# Altium footprint library Toygether_PcbLib.PcbLib: 45 footprints (part 3 of 3)
Each footprint in its own frame and in the unit in brackets; x right, y up, seen from the top. Pads: shape width x height; smd on the part's side, far side on the other; paste and mask are expansions set on the pad; w line width, h text height; cw(c..) or ccw(c..) is an arc to the next point about the centre after c.
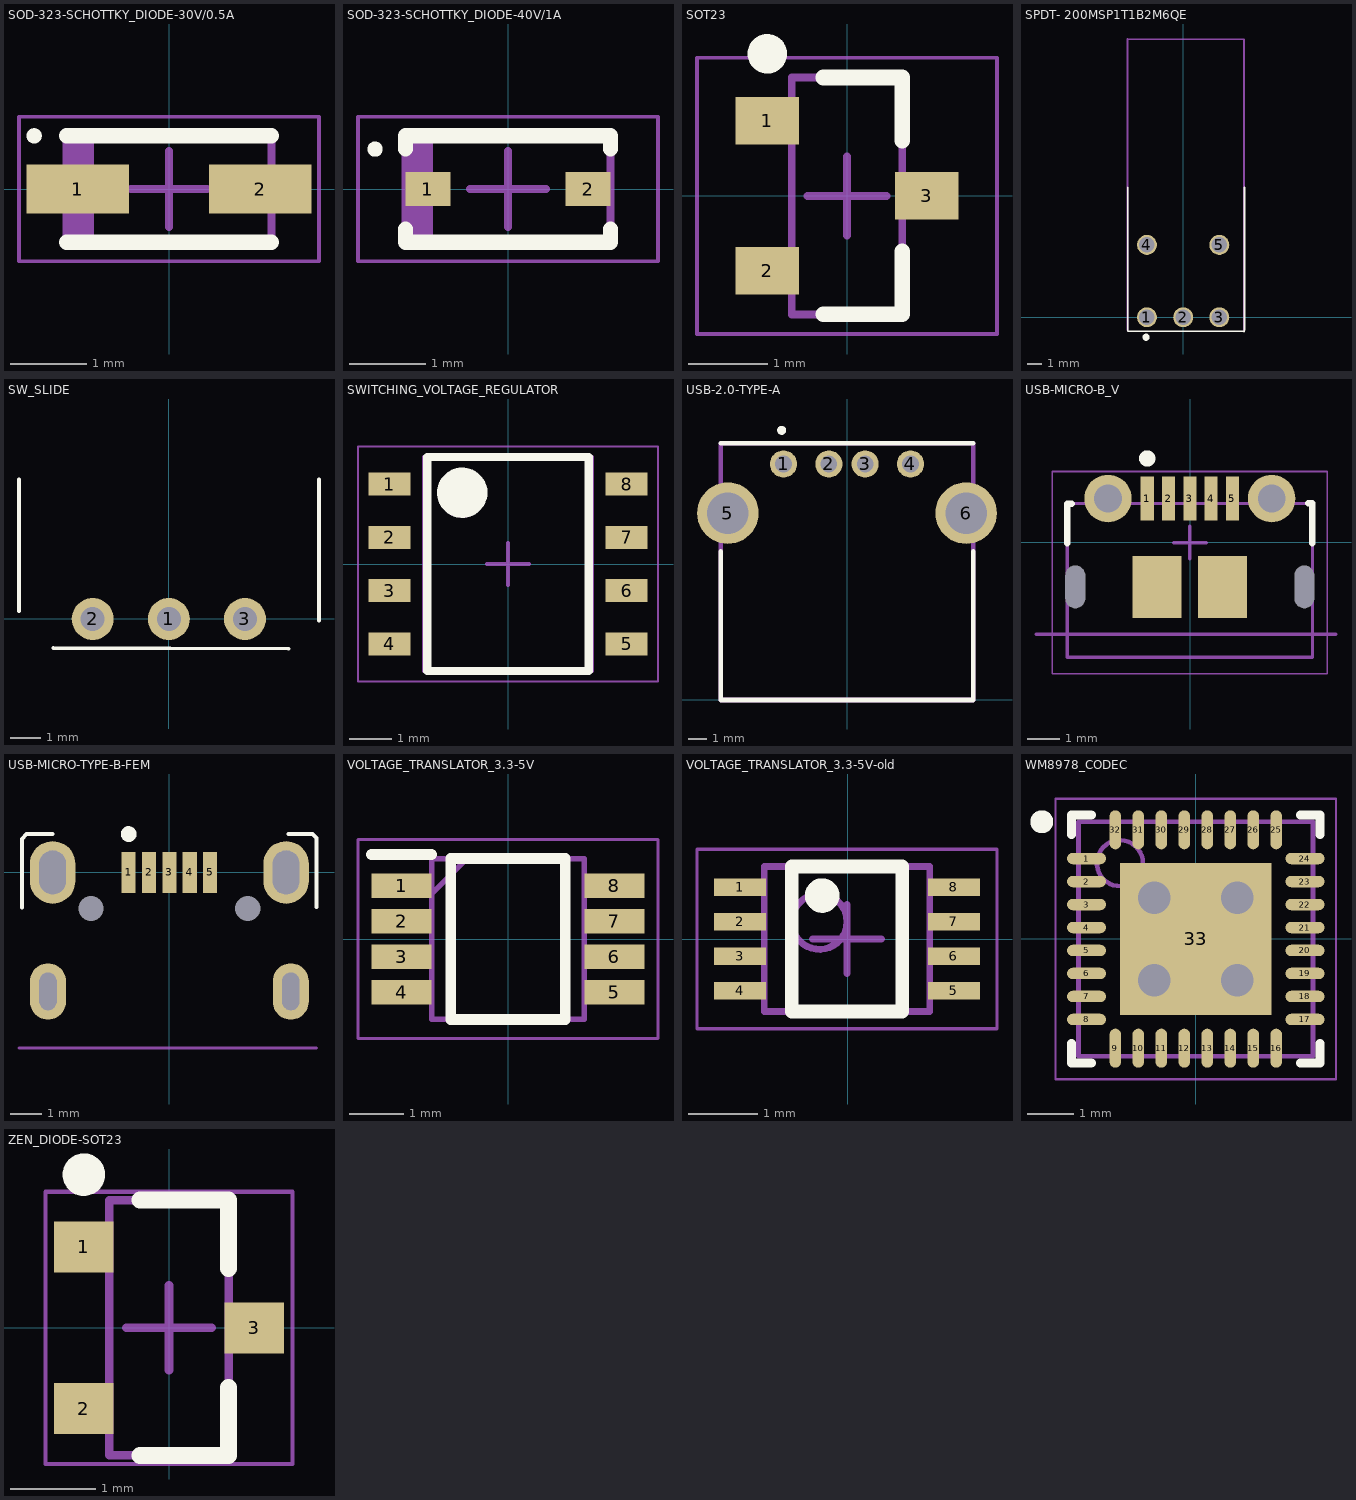
[diagram p2: the footprints below, top view; thin cyan lines are the x and y axes]

## SOD-323-SCHOTTKY_DIODE-30V/0.5A [mm] "Molded Diode, 2-Leads, Body 2,50x1,30mm, IPC Medium Density"
height 1.1
pads (2):
  rect 1.35x0.65 smd: 1(-1.2,0) 2(1.2,0)
Top Overlay:
  circle w0.1: c-1.775,0.7 r0.05
  lines w0.2: -1.35,-0.7 1.35,-0.7 ; -1.35,0.7 1.35,0.7
Mechanical 13:
  rectangle: -1.35,-0.7 -0.987,0.7
  lines w0.1: -1.35,-0.7 1.35,-0.7 1.35,0.7 -1.35,0.7 -1.35,-0.7
Mechanical 15:
  lines w0.05: -1.975,-0.95 1.975,-0.95 1.975,0.95 -1.975,0.95 -1.975,-0.95
  lines w0.1: -0.5,0 0.5,0 ; 0,-0.5 0,0.5
3D body "SOD-323.step": height 1.1, standoff 0, extent -1.57,-0.7 1.57,0.7

## SOD-323-SCHOTTKY_DIODE-40V/1A [mm]
pads (2):
  rect 0.59x0.45 smd: 1(-1.055,0) 2(1.055,0)
Top Overlay:
  circle w0.1: c-1.75,0.525 r0.05
  lines w0.2: -1.35,-0.525 -1.35,-0.7 1.35,-0.7 1.35,-0.525 ; -1.35,0.525 -1.35,0.7 1.35,0.7 1.35,0.525
Mechanical 13:
  rectangle: -1.35,-0.7 -0.987,0.7
  lines w0.1: -1.35,-0.7 1.35,-0.7 1.35,0.7 -1.35,0.7 -1.35,-0.7
Mechanical 15:
  lines w0.05: -1.975,-0.95 1.975,-0.95 1.975,0.95 -1.975,0.95 -1.975,-0.95
  lines w0.1: -0.5,0 0.5,0 ; 0,-0.5 0,0.5
3D body "CAPM3216X18N.step": height 1.1, standoff 0, extent -1.57,-0.7 1.57,0.7

## SOT23 [mm] "SOT23, 3-Leads, Body 2,90x2,40mm, Pitch 0,95mm, IPC Medium Density"
height 1.1
pads (3):
  rect 0.8x0.6 smd: 1(-1.01,0.95) 2(-1.01,-0.95) 3(1.01,0)
Top Overlay:
  circle w0.25: c-1.01,1.8 r0.125
  lines w0.2: -0.3,-1.5 0.7,-1.5 0.7,-0.7 ; -0.3,1.5 0.7,1.5 0.7,0.7
Mechanical 13:
  lines w0.1: -0.7,-1.5 -0.7,1.5 0.7,1.5 0.7,-1.5 -0.7,-1.5
Mechanical 15:
  lines w0.05: -1.9,-1.75 -1.9,1.75 1.9,1.75 1.9,-1.75 -1.9,-1.75
  lines w0.1: -0.5,0 0.5,0 ; 0,-0.5 0,0.5
3D body "SOT23.step": height 1.1, standoff 0, extent -1.275,-1.5 1.275,1.5

## SPDT- 200MSP1T1B2M6QE [mm]
pads (5):
  round 1.4 hole 1.09: 1(-2.54,0) 2(0,0) 3(2.54,0) 4(-2.54,5.08) 5(2.54,5.08)
Top Overlay:
  circle w0.25: c-2.6,-1.4 r0.125
  lines w0.127: -3.89,-0.9 -3.89,9.1 ; -3.86,-0.97 4.27,-0.991 ; 4.3,-0.9 4.3,9.1
Mechanical 4:
  lines w0.127: -3.9,-0.9 -3.9,19.49 ; -3.9,19.53 4.23,19.509 ; 4.28,-0.9 4.28,19.49

## SW_SLIDE [mm]
pads (3):
  round 1.4 hole 0.8: 1(0,0) 2(-2.54,0) 3(2.54,0)
Top Overlay:
  lines w0.127: -5,0.27 -5,4.66 ; -3.86,-0.97 3.99,-0.99 ; 5.01,-0.05 5.01,4.66
3D body "450302014072.stp": height 2.51, standoff -3.69, extent -5,-0.3 5,6.8

## SWITCHING_VOLTAGE_REGULATOR [mm]
height 1.75
pads (8):
  rect 1x0.55 smd: 1(-2.825,1.905) 2(-2.825,0.635) 3(-2.825,-0.635) 4(-2.825,-1.905) 5(2.825,-1.905) 6(2.825,-0.635) 7(2.825,0.635) 8(2.825,1.905)
Top Overlay:
  circle w0.6: c-1.09,1.7 r0.3
  lines w0.2: -1.925,-2.55 -1.925,2.55 1.925,2.55 1.925,-2.55 -1.925,-2.55
Mechanical 13:
  circle w0.1: c-1.1,1.65 r0.5
  lines w0.1: -2,-2.55 -2,2.55 2,2.55 2,-2.55 -2,-2.55
Mechanical 15:
  lines w0.05: -3.575,-2.8 -3.575,2.8 3.575,2.8 3.575,-2.8 -3.575,-2.8
  lines w0.1: -0.5,0 0.5,0 ; 0,-0.5 0,0.5
3D body "SOP127P600-8N.step": height 1.75, standoff 0, extent -3.025,-2.55 3.025,2.55

## USB-2.0-TYPE-A [mm]
height 11.05
pads (6):
  round 1.5 hole 0.92: 1(-3.5,13) 2(-1,13) 3(1,13) 4(3.5,13)
  round 3.4 hole 2.3: 5(-6.57,10.29) 6(6.57,10.29)
Top Overlay:
  circle w0.25: c-3.6,14.857 r0.125
  lines w0.254: -6.95,8.19 -6.95,-0.01 6.95,-0.01 6.95,8.19 ; -6.95,14.14 6.95,14.14
Mechanical 15:
  lines w0.254: -6.95,-0.01 -6.95,14.14 6.95,14.14 6.95,-0.01 -6.95,-0.01

## USB-MICRO-B_V [mm] "USB, MICRO B, Body 7.491x4.695 mm, Pitch 0.65 mm"
height 2.673
pads (11):
  rect 0.4x1.35 smd: 1(-1.31,1.332) 2(-0.66,1.332) 3(-0.01,1.332) 4(0.64,1.332) 5(1.29,1.332)
  rrect50% 0x0 hole 0.6 slot 1.3 at 90 deg: 8(-3.51,-1.368) 11(3.49,-1.368)
  round 1.45 hole 0.85: ""(-2.51,1.332) ""(2.49,1.332)
  rect 1.5x1.9 smd: ""(-1.01,-1.368) ""(0.99,-1.368)
Top Overlay:
  circle w0.25: c-1.31,2.557 r0.125
  lines w0.2: -3.755,-0.03 -3.755,1.177 -3.624,1.177 ; 3.605,1.182 3.735,1.182 3.735,-0.03
Mechanical 1:
  lines w0.1: -4.71,-2.818 4.455,-2.818
  text "PCB EDGE" at -7.21,-2.918 h0.3
Mechanical 13:
  lines w0.1: -3.76,1.182 3.735,1.182 3.735,-3.518 -3.755,-3.518 -3.755,1.177
Mechanical 15:
  lines w0.05: -4.21,-4.018 -4.21,2.157 4.19,2.157 4.19,-4.018 -4.21,-4.018
  lines w0.1: -0.51,-0.018 0.49,-0.018 ; -0.01,-0.518 -0.01,0.482
Multi-Layer:
  circle w0.5: c3.59,-1.818 r0.25
  circle w0.5: c3.59,-0.918 r0.25
  circle w0.5: c-3.61,-0.918 r0.25
  circle w0.5: c-3.61,-1.818 r0.25
  region: 3.59,-0.918 3.59,-1.818 4.09,-1.818 4.09,-0.918
  region: 2.29,-0.418 2.29,-2.318 3.59,-2.318 3.59,-0.418
  region: -3.61,-1.818 -3.61,-0.918 -4.11,-0.918 -4.11,-1.818
  region: -2.31,-2.318 -2.31,-0.418 -3.61,-0.418 -3.61,-2.318
3D body "1050170001.stp": height 2.67, standoff -0.63, extent -4.1,-4.08 4.1,1.32

## USB-MICRO-TYPE-B-FEM [mm]
height 2.66
pads (11):
  rect 0.45x1.3 smd: 1(-1.3,0) 2(-0.65,0) 3(0,0) 4(0.65,0) 5(1.3,0)
  oval 1.15x1.8 hole 1.2 slot 0.55 at 0 deg: ""(-3.875,-3.8) ""(3.875,-3.8)
  oval 1.45x2 hole 1.4 slot 0.85 at 0 deg: ""(-3.725,0) ""(3.725,0)
  round 0 hole 0.8: ""(-2.5,-1.15) ""(2.5,-1.15)
Top Overlay:
  circle w0.25: c-1.3,1.225 r0.125
  lines w0.127: -4.708,-1.127 -4.708,1.073 -4.556,1.225 -4.475,1.225 -3.725,1.225 ; 3.8,1.225 4.4,1.225 4.567,1.225 4.7,1.092 4.7,0.925 4.7,-1.1
Mechanical 1:
  lines w0.1: -4.8,-5.6 4.7,-5.6
  text "PCB EDGE" at -7.3,-5.6 h0.3
3D body "1050170001.stp": height 2.67, standoff -0.63, extent -4.1,-5.55 4.1,-0.15

## VOLTAGE_TRANSLATOR_3.3-5V [mm] "TSSOP, 8-Leads, Body 2,00x2,30mm, Pitch 0,50mm, IPC Medium Density"
height 0.9
pads (8):
  rect 1.1x0.45 smd: 1(-1.95,0.975) 2(-1.95,0.325) 3(-1.95,-0.325) 4(-1.95,-0.975) 5(1.95,-0.975) 6(1.95,-0.325) 7(1.95,0.325) 8(1.95,0.975)
Top Overlay:
  lines w0.2: -2.5,1.55 -1.4,1.55 ; -1.05,-1.475 1.05,-1.475 1.05,1.475 -1.05,1.475 -1.05,-1.475
Mechanical 15:
  lines w0.1: -1.4,0.825 -0.75,1.475 ; -1.4,-1.475 1.4,-1.475 1.4,1.475 -1.4,1.475 -1.4,-1.475
Mechanical 20:
  lines w0.05: -2.75,-1.825 2.75,-1.825 2.75,1.825 -2.75,1.825 -2.75,-1.825
3D body "SN74LVC2T45DCTR.stp": height 1.3, standoff 0, extent -2,-1.475 2,1.475

## VOLTAGE_TRANSLATOR_3.3-5V-old [mm]
pads (8):
  rect 0.75x0.25 smd mask+0.102: 1(-1.56,0.75) 2(-1.56,0.25) 3(-1.56,-0.25) 4(-1.56,-0.75) 5(1.54,-0.75) 6(1.54,-0.25) 7(1.54,0.25) 8(1.54,0.75)
Top Overlay:
  circle w0.25: c-0.37,0.63 r0.125
  lines w0.2: -0.81,-1.05 -0.81,1.05 0.79,1.05 0.79,-1.05 -0.81,-1.05
Mechanical 13:
  circle w0.1: c-0.41,0.25 r0.4
  lines w0.1: -1.21,-1.05 -1.21,1.05 1.19,1.05 1.19,-1.05 -1.21,-1.05
Mechanical 15:
  lines w0.05: -2.185,-1.3 -2.185,1.3 2.165,1.3 2.165,-1.3 -2.185,-1.3
  lines w0.1: -0.51,0 0.49,0 ; -0.01,-0.5 -0.01,0.5
3D body "VOLTAGE_TRANSLATOR_3.3-5V.step": height 0.9, standoff 0, extent -1.559,-1.05 1.539,1.05

## WM8978_CODEC [mm] "QFN, 32-Leads, Body 5.00x5.00mm, Pitch 0.50mm, Thermal Pad 3.30x3.30mm, IPC Medium Density"
height 1
pads (33):
  oval 0.85x0.25 smd: 1(-2.375,1.75) 2(-2.375,1.25) 3(-2.375,0.75) 4(-2.375,0.25) 5(-2.375,-0.25) 6(-2.375,-0.75) 7(-2.375,-1.25) 8(-2.375,-1.75) 17(2.375,-1.75) 18(2.375,-1.25) 19(2.375,-0.75) 20(2.375,-0.25) 21(2.375,0.25) 22(2.375,0.75) 23(2.375,1.25) 24(2.375,1.75)
  oval 0.25x0.85 smd: 9(-1.75,-2.375) 10(-1.25,-2.375) 11(-0.75,-2.375) 12(-0.25,-2.375) 13(0.25,-2.375) 14(0.75,-2.375) 15(1.25,-2.375) 16(1.75,-2.375) 25(1.75,2.375) 26(1.25,2.375) 27(0.75,2.375) 28(0.25,2.375) 29(-0.25,2.375) 30(-0.75,2.375) 31(-1.25,2.375) 32(-1.75,2.375)
  rect 3.3x3.3 smd: 33(0,0)
via 0.9,0.9 diameter 1.27 hole 0.711
via 0.9,-0.9 diameter 1.27 hole 0.711
via -0.9,-0.9 diameter 1.27 hole 0.711
via -0.9,0.9 diameter 1.27 hole 0.711
Top Overlay:
  circle w0.25: c-3.35,2.55 r0.125
  lines w0.2: -2.7,-2.275 -2.7,-2.7 -2.275,-2.7 ; -2.7,2.275 -2.7,2.7 -2.275,2.7 ; 2.275,-2.7 2.7,-2.7 2.7,-2.275 ; 2.275,2.7 2.7,2.7 2.7,2.275
Mechanical 13:
  circle w0.1: c-1.65,1.65 r0.5
  lines w0.1: -2.55,-2.55 2.55,-2.55 2.55,2.55 -2.55,2.55 -2.55,-2.55
Mechanical 15:
  lines w0.05: -3.05,-3.05 3.05,-3.05 3.05,3.05 -3.05,3.05 -3.05,-3.05
  lines w0.1: -0.5,0 0.5,0 ; 0,-0.5 0,0.5
3D body "WM8978_CODEC.step": height 1, standoff 0, extent -2.551,-2.551 2.551,2.551

## ZEN_DIODE-SOT23 [mm] "SOT23, 3-Leads, Body 3x1.4mm, Pitch 0.95mm"
height 1.1
pads (3):
  rect 0.7x0.6 smd paste-0.05: 1(-1,0.95) 2(-1,-0.95) 3(1,0)
Top Overlay:
  circle w0.25: c-1,1.8 r0.125
  lines w0.2: -0.338,-1.5 0.7,-1.5 0.7,-0.7 ; -0.338,1.5 0.7,1.5 0.7,0.7
Mechanical 13:
  lines w0.1: -0.7,-1.5 0.7,-1.5 0.7,1.5 -0.7,1.5 -0.7,-1.5
Mechanical 15:
  lines w0.05: -1.45,-1.6 1.45,-1.6 1.45,1.6 -1.45,1.6 -1.45,-1.6
  lines w0.1: -0.5,0 0.5,0 ; 0,-0.5 0,0.5
3D body: height 1.1, standoff 0, extent -0.7,-1.5 0.7,1.5